# Altium footprint library SnapEDApcb.PcbLib: 1 footprints
Each footprint in its own frame and in the unit in brackets; x right, y up, seen from the top. Pads: shape width x height; smd on the part's side, far side on the other; paste and mask are expansions set on the pad; w line width, h text height; cw(c..) or ccw(c..) is an arc to the next point about the centre after c.
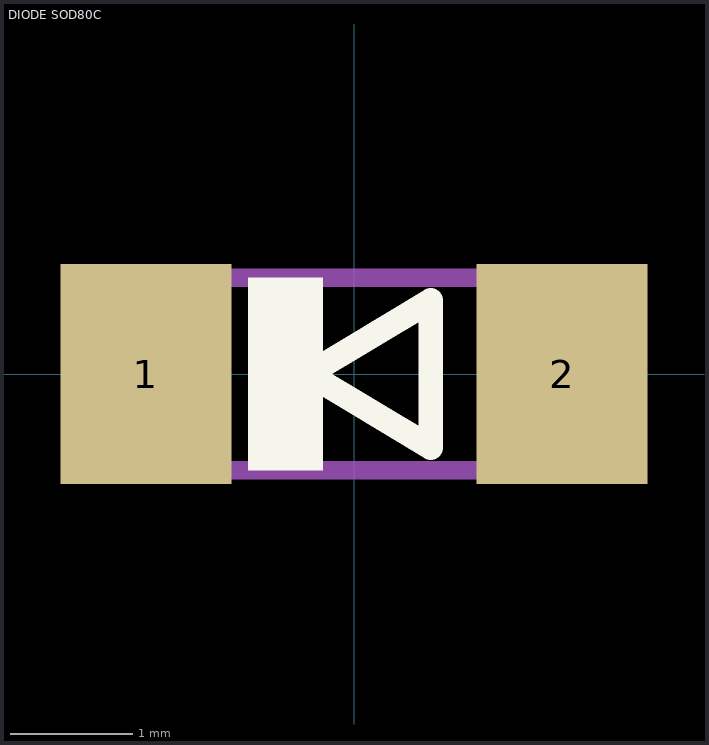
[diagram p0: the footprint, top view; thin cyan lines are the x and y axes]

## DIODE SOD80C [mm] "Diode Standard 75V 200mA _DC_ Surface Mount LLDS; MiniMelf DIODE SOD80C PMLL4148L"
pads (2):
  rect 1.4x1.8 smd: 1(-1.7,0) 2(1.7,0)
Top Overlay:
  region: -0.254,-0.788 -0.864,-0.788 -0.864,0.787 -0.254,0.787
  lines w0.203: -0.373,0 0.627,-0.6 0.627,0.6 -0.373,0
Mechanical 13:
  region: 1.854,-0.865 1.298,-0.865 1.298,0.864 1.854,0.864
  region: -1.295,-0.865 -1.857,-0.865 -1.857,0.864 -1.295,0.864
  lines w0.152: -1.321,-0.787 1.321,-0.787 ; -1.321,0.787 1.321,0.787
3D body "BZT55C75-GS08.STEP": height 1.52, standoff 0, extent -1.75,-0.636 1.75,0.678